# Altium footprint library SI5340B-D-GM.PcbLib: 3 footprints
Each footprint in its own frame and in the unit in brackets; x right, y up, seen from the top. Pads: shape width x height; smd on the part's side, far side on the other; paste and mask are expansions set on the pad; w line width, h text height; cw(c..) or ccw(c..) is an arc to the next point about the centre after c.
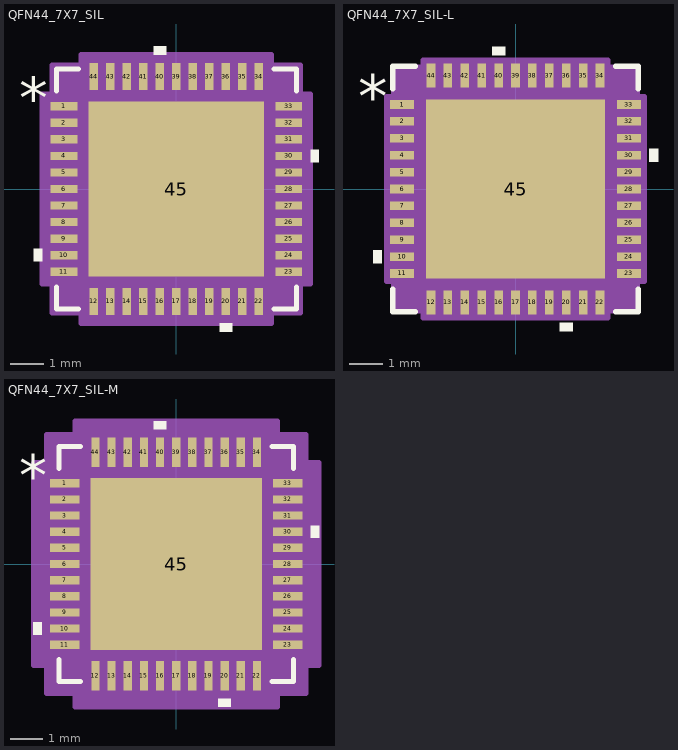
[diagram p0: the footprints below, top view; thin cyan lines are the x and y axes]

## QFN44_7X7_SIL [mil]
pads (45):
  rect 32x10 smd paste+0 mask+0: 1(-134,98.43) 2(-134,78.74) 3(-134,59.06) 4(-134,39.37) 5(-134,19.68) 6(-134,0) 7(-134,-19.68) 8(-134,-39.37) 9(-134,-59.06) 10(-134,-78.74) 11(-134,-98.43) 23(134,-98.43) 24(134,-78.74) 25(134,-59.06) 26(134,-39.37) 27(134,-19.68) 28(134,0) 29(134,19.68) 30(134,39.37) 31(134,59.06) 32(134,78.74) 33(134,98.43)
  rect 10x32 smd paste+0 mask+0: 12(-98.43,-134) 13(-78.74,-134) 14(-59.06,-134) 15(-39.37,-134) 16(-19.68,-134) 17(0,-134) 18(19.68,-134) 19(39.37,-134) 20(59.06,-134) 21(78.74,-134) 22(98.43,-134) 34(98.43,134) 35(78.74,134) 36(59.06,134) 37(39.37,134) 38(19.68,134) 39(0,134) 40(-19.68,134) 41(-39.37,134) 42(-59.06,134) 43(-78.74,134) 44(-98.43,134)
  rect 209x209 smd paste-104 mask+0: 45(0,0)
Top Overlay:
  region: -160,-71.24 -170,-71.24 -170,-86.24 -160,-86.24
  region: 66.56,-160 51.56,-160 51.56,-170 66.56,-170
  region: 160,46.87 170,46.87 170,31.87 160,31.87
  region: -12.19,160 -27.18,160 -27.18,170 -12.19,170
  lines w6: -143,-116.53 -143,-143 -116.53,-143 ; -143,116.53 -143,143 -116.53,143 ; 116.53,-143 143,-143 143,-116.53 ; 116.53,143 143,143 143,116.53
  text "*" at -187.5,83.27 h50
Top Paste:
  region: -56.19,100.56 -100.56,100.56 -100.56,56.19 -56.19,56.19
  region: -56.19,48.31 -100.56,48.31 -100.56,3.94 -56.19,3.94
  region: -56.19,-3.94 -100.56,-3.94 -100.56,-48.31 -56.19,-48.31
  region: -56.19,-56.19 -100.56,-56.19 -100.56,-100.56 -56.19,-100.56
  region: -3.94,100.56 -48.31,100.56 -48.31,56.19 -3.94,56.19
  region: -3.94,48.31 -48.31,48.31 -48.31,3.94 -3.94,3.94
  region: -3.94,-3.94 -48.31,-3.94 -48.31,-48.31 -3.94,-48.31
  region: -3.94,-56.19 -48.31,-56.19 -48.31,-100.56 -3.94,-100.56
  region: 48.31,100.56 3.94,100.56 3.94,56.19 48.31,56.19
  region: 48.31,48.31 3.94,48.31 3.94,3.94 48.31,3.94
  region: 48.31,-3.94 3.94,-3.94 3.94,-48.31 48.31,-48.31
  region: 48.31,-56.19 3.94,-56.19 3.94,-100.56 48.31,-100.56
  region: 100.56,100.56 56.19,100.56 56.19,56.19 100.56,56.19
  region: 100.56,48.31 56.19,48.31 56.19,3.94 100.56,3.94
  region: 100.56,-3.94 56.19,-3.94 56.19,-48.31 100.56,-48.31
  region: 100.56,-56.19 56.19,-56.19 56.19,-100.56 100.56,-100.56
Mechanical 13:
  drawing of 185 lines, arcs and shapes, not listed
  text "*" at -130.5,83.27 h50
Mechanical 15:
  region: -113.43,-148 -148,-148 -148,-113.43 -160,-113.43 -160,113.43 -148,113.43 -148,148 -113.43,148 -113.43,160 113.43,160 113.43,148 148,148 148,113.43 160,113.43 160,-113.43 148,-113.43 148,-148 113.43,-148 113.43,-160 -113.43,-160
  lines w6: -160,-113.43 -148,-113.43 -148,-148 -113.43,-148 -113.43,-160 113.43,-160 113.43,-148 148,-148 148,-113.43 160,-113.43 160,113.43 148,113.43 148,148 113.43,148 113.43,160 -113.43,160 -113.43,148 -148,148 -148,113.43 -160,113.43 -160,-113.43
3D body "QFN44_7X7_SIL.step": height 35.12, standoff 0, extent -137.99,-137.99 137.99,137.99

## QFN44_7X7_SIL-L [mil]
pads (45):
  rect 28x10 smd paste+0 mask+0: 1(-132,98.43) 2(-132,78.74) 3(-132,59.06) 4(-132,39.37) 5(-132,19.68) 6(-132,0) 7(-132,-19.68) 8(-132,-39.37) 9(-132,-59.06) 10(-132,-78.74) 11(-132,-98.43) 23(132,-98.43) 24(132,-78.74) 25(132,-59.06) 26(132,-39.37) 27(132,-19.68) 28(132,0) 29(132,19.68) 30(132,39.37) 31(132,59.06) 32(132,78.74) 33(132,98.43)
  rect 10x28 smd paste+0 mask+0: 12(-98.43,-132) 13(-78.74,-132) 14(-59.06,-132) 15(-39.37,-132) 16(-19.68,-132) 17(0,-132) 18(19.68,-132) 19(39.37,-132) 20(59.06,-132) 21(78.74,-132) 22(98.43,-132) 34(98.43,132) 35(78.74,132) 36(59.06,132) 37(39.37,132) 38(19.68,132) 39(0,132) 40(-19.68,132) 41(-39.37,132) 42(-59.06,132) 43(-78.74,132) 44(-98.43,132)
  rect 209x209 smd paste-104 mask+0: 45(0,0)
Top Overlay:
  region: -156,-71.24 -166,-71.24 -166,-86.24 -156,-86.24
  region: 66.56,-156 51.56,-156 51.56,-166 66.56,-166
  region: 156,46.87 166,46.87 166,31.87 156,31.87
  region: -12.19,156 -27.18,156 -27.18,166 -12.19,166
  lines w6: -143,-116.53 -143,-143 -116.53,-143 ; -143,116.53 -143,143 -116.53,143 ; 116.53,-143 143,-143 143,-116.53 ; 116.53,143 143,143 143,116.53
  text "*" at -183.5,83.27 h50
Top Paste:
  region: -56.19,100.56 -100.56,100.56 -100.56,56.19 -56.19,56.19
  region: -56.19,48.31 -100.56,48.31 -100.56,3.94 -56.19,3.94
  region: -56.19,-3.94 -100.56,-3.94 -100.56,-48.31 -56.19,-48.31
  region: -56.19,-56.19 -100.56,-56.19 -100.56,-100.56 -56.19,-100.56
  region: -3.94,100.56 -48.31,100.56 -48.31,56.19 -3.94,56.19
  region: -3.94,48.31 -48.31,48.31 -48.31,3.94 -3.94,3.94
  region: -3.94,-3.94 -48.31,-3.94 -48.31,-48.31 -3.94,-48.31
  region: -3.94,-56.19 -48.31,-56.19 -48.31,-100.56 -3.94,-100.56
  region: 48.31,100.56 3.94,100.56 3.94,56.19 48.31,56.19
  region: 48.31,48.31 3.94,48.31 3.94,3.94 48.31,3.94
  region: 48.31,-3.94 3.94,-3.94 3.94,-48.31 48.31,-48.31
  region: 48.31,-56.19 3.94,-56.19 3.94,-100.56 48.31,-100.56
  region: 100.56,100.56 56.19,100.56 56.19,56.19 100.56,56.19
  region: 100.56,48.31 56.19,48.31 56.19,3.94 100.56,3.94
  region: 100.56,-3.94 56.19,-3.94 56.19,-48.31 100.56,-48.31
  region: 100.56,-56.19 56.19,-56.19 56.19,-100.56 100.56,-100.56
Mechanical 13:
  drawing of 185 lines, arcs and shapes, not listed
  text "*" at -130.5,83.27 h50
Mechanical 15:
  region: -107.43,-142 -142,-142 -142,-107.43 -150,-107.43 -150,107.43 -142,107.43 -142,142 -107.43,142 -107.43,150 107.43,150 107.43,142 142,142 142,107.43 150,107.43 150,-107.43 142,-107.43 142,-142 107.43,-142 107.43,-150 -107.43,-150
  lines w6: -150,-107.43 -142,-107.43 -142,-142 -107.43,-142 -107.43,-150 107.43,-150 107.43,-142 142,-142 142,-107.43 150,-107.43 150,107.43 142,107.43 142,142 107.43,142 107.43,150 -107.43,150 -107.43,142 -142,142 -142,107.43 -150,107.43 -150,-107.43
3D body "QFN44_7X7_SIL.step": height 35.12, standoff 0, extent -137.99,-137.99 137.99,137.99

## QFN44_7X7_SIL-M [mil]
pads (45):
  rect 36x10 smd paste+0 mask+0: 1(-136,98.43) 2(-136,78.74) 3(-136,59.06) 4(-136,39.37) 5(-136,19.68) 6(-136,0) 7(-136,-19.68) 8(-136,-39.37) 9(-136,-59.06) 10(-136,-78.74) 11(-136,-98.43) 23(136,-98.43) 24(136,-78.74) 25(136,-59.06) 26(136,-39.37) 27(136,-19.68) 28(136,0) 29(136,19.68) 30(136,39.37) 31(136,59.06) 32(136,78.74) 33(136,98.43)
  rect 10x36 smd paste+0 mask+0: 12(-98.43,-136) 13(-78.74,-136) 14(-59.06,-136) 15(-39.37,-136) 16(-19.68,-136) 17(0,-136) 18(19.68,-136) 19(39.37,-136) 20(59.06,-136) 21(78.74,-136) 22(98.43,-136) 34(98.43,136) 35(78.74,136) 36(59.06,136) 37(39.37,136) 38(19.68,136) 39(0,136) 40(-19.68,136) 41(-39.37,136) 42(-59.06,136) 43(-78.74,136) 44(-98.43,136)
  rect 209x209 smd paste-104 mask+0: 45(0,0)
Top Overlay:
  region: -164,-71.24 -174,-71.24 -174,-86.24 -164,-86.24
  region: 66.56,-164 51.56,-164 51.56,-174 66.56,-174
  region: 164,46.87 174,46.87 174,31.87 164,31.87
  region: -12.19,164 -27.18,164 -27.18,174 -12.19,174
  lines w6: -143,-116.53 -143,-143 -116.53,-143 ; -143,116.53 -143,143 -116.53,143 ; 116.53,-143 143,-143 143,-116.53 ; 116.53,143 143,143 143,116.53
  text "*" at -191.5,83.27 h50
Top Paste:
  region: -56.19,100.56 -100.56,100.56 -100.56,56.19 -56.19,56.19
  region: -56.19,48.31 -100.56,48.31 -100.56,3.94 -56.19,3.94
  region: -56.19,-3.94 -100.56,-3.94 -100.56,-48.31 -56.19,-48.31
  region: -56.19,-56.19 -100.56,-56.19 -100.56,-100.56 -56.19,-100.56
  region: -3.94,100.56 -48.31,100.56 -48.31,56.19 -3.94,56.19
  region: -3.94,48.31 -48.31,48.31 -48.31,3.94 -3.94,3.94
  region: -3.94,-3.94 -48.31,-3.94 -48.31,-48.31 -3.94,-48.31
  region: -3.94,-56.19 -48.31,-56.19 -48.31,-100.56 -3.94,-100.56
  region: 48.31,100.56 3.94,100.56 3.94,56.19 48.31,56.19
  region: 48.31,48.31 3.94,48.31 3.94,3.94 48.31,3.94
  region: 48.31,-3.94 3.94,-3.94 3.94,-48.31 48.31,-48.31
  region: 48.31,-56.19 3.94,-56.19 3.94,-100.56 48.31,-100.56
  region: 100.56,100.56 56.19,100.56 56.19,56.19 100.56,56.19
  region: 100.56,48.31 56.19,48.31 56.19,3.94 100.56,3.94
  region: 100.56,-3.94 56.19,-3.94 56.19,-48.31 100.56,-48.31
  region: 100.56,-56.19 56.19,-56.19 56.19,-100.56 100.56,-100.56
Mechanical 13:
  drawing of 185 lines, arcs and shapes, not listed
  text "*" at -130.5,83.27 h50
Mechanical 15:
  region: -123.43,-158 -158,-158 -158,-123.43 -174,-123.43 -174,123.43 -158,123.43 -158,158 -123.43,158 -123.43,174 123.43,174 123.43,158 158,158 158,123.43 174,123.43 174,-123.43 158,-123.43 158,-158 123.43,-158 123.43,-174 -123.43,-174
  lines w6: -174,-123.43 -158,-123.43 -158,-158 -123.43,-158 -123.43,-174 123.43,-174 123.43,-158 158,-158 158,-123.43 174,-123.43 174,123.43 158,123.43 158,158 123.43,158 123.43,174 -123.43,174 -123.43,158 -158,158 -158,123.43 -174,123.43 -174,-123.43
3D body "QFN44_7X7_SIL.step": height 35.12, standoff 0, extent -137.99,-137.99 137.99,137.99